# EAGLE library part TPD4E1B06DCKR (library ADC)
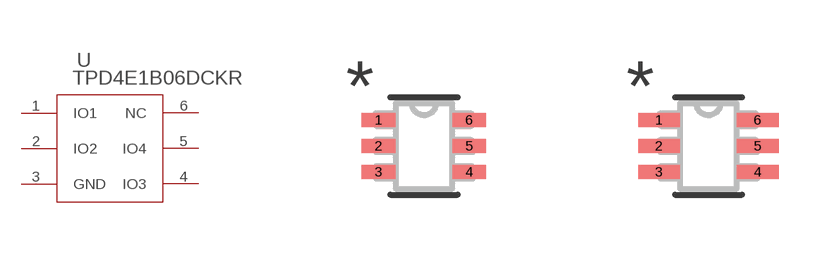
[diagram p5: symbol with the pads of DCK6_TEX; footprints DCK6_TEX, DCK6_TEX-M]

Designator prefix U

## TPD4E1B06DCKR (COPYRIGHT: Copyright (C) 2021 Ultra Librarian. All rights reserved.; DIGI-KEY_PART_NUMBER_1: 296-39346-1-ND; DIGI-KEY_PART_NUMBER_2: 296-39346-2-ND; DIGI-KEY_PART_NUMBER_3: 296-39346-6-ND; DIGI-KEY_PART_NUMBER_4: TPD4E1B06DCKR-ND; MANUFACTURER_PART_NUMBER: TPD4E1B06DCKR; MFR_NAME: Texas Instruments)  [DCK6_TEX]
1  IO1
2  IO2
3  GND  pwr
4  IO3
5  IO4
6  NC  nc

## TPD4E1B06DCKRDCK6_TEX-M (COPYRIGHT: Copyright (C) 2021 Ultra Librarian. All rights reserved.; DIGI-KEY_PART_NUMBER_1: 296-39346-1-ND; DIGI-KEY_PART_NUMBER_2: 296-39346-2-ND; DIGI-KEY_PART_NUMBER_3: 296-39346-6-ND; DIGI-KEY_PART_NUMBER_4: TPD4E1B06DCKR-ND; MANUFACTURER_PART_NUMBER: TPD4E1B06DCKR; MFR_NAME: Texas Instruments)  [DCK6_TEX-M]
Pads as for DCK6_TEX

## TPD4E1B06DCKRDCK6_TEX-L (COPYRIGHT: Copyright (C) 2021 Ultra Librarian. All rights reserved.; DIGI-KEY_PART_NUMBER_1: 296-39346-1-ND; DIGI-KEY_PART_NUMBER_2: 296-39346-2-ND; DIGI-KEY_PART_NUMBER_3: 296-39346-6-ND; DIGI-KEY_PART_NUMBER_4: TPD4E1B06DCKR-ND; MANUFACTURER_PART_NUMBER: TPD4E1B06DCKR; MFR_NAME: Texas Instruments)  [DCK6_TEX-L]
Pads as for DCK6_TEX

## Footprint DCK6_TEX (pad centres in mm)
smd 0.845 x 0.355: 1 -1.134,0.65; 2 -1.134,0; 3 -1.134,-0.65; 4 1.134,-0.65; 5 1.134,0; 6 1.134,0.65

## Footprint DCK6_TEX-M (pad centres in mm)
smd 1.045 x 0.355: 1 -1.234,0.65; 2 -1.234,0; 3 -1.234,-0.65; 4 1.234,-0.65; 5 1.234,0; 6 1.234,0.65

## Footprint DCK6_TEX-L (pad centres in mm)
smd 0.645 x 0.305: 1 -1.034,0.65; 2 -1.034,0; 3 -1.034,-0.65; 4 1.034,-0.65; 5 1.034,0; 6 1.034,0.65